# EAGLE library part AS6C2008 (library memory-alliance)
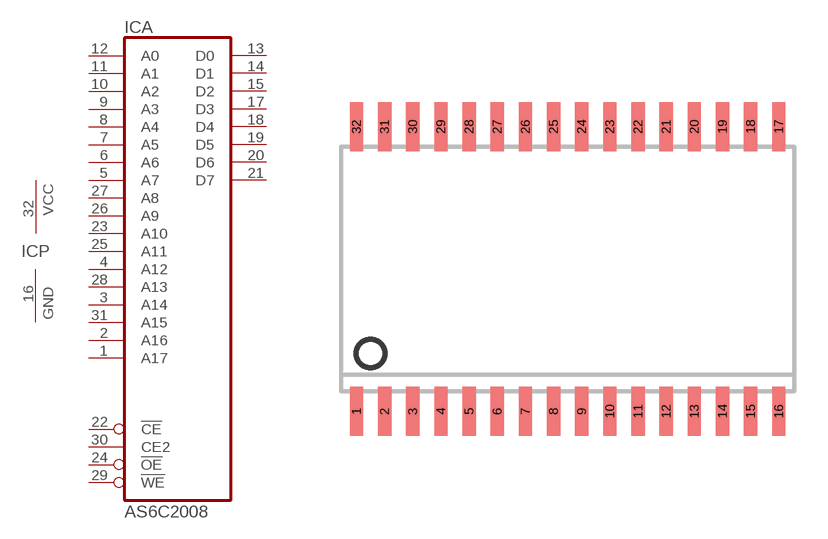
[diagram p2: symbol with the pads of SOP32L; footprint SOP32L]

Designator prefix IC; gates A=AS6C2008 P=PWRGND

## AS6C2008  [SOP32L]
1  A:A17  in
2  A:A16  in
3  A:A14  in
4  A:A12  in
5  A:A7  in
6  A:A6  in
7  A:A5  in
8  A:A4  in
9  A:A3  in
10  A:A2  in
11  A:A1  in
12  A:A0  in
13  A:D0
14  A:D1
15  A:D2
16  P:GND  pwr
17  A:D3
18  A:D4
19  A:D5
20  A:D6
21  A:D7
22  A:!CE  in
23  A:A10  in
24  A:!OE  in
25  A:A11  in
26  A:A9  in
27  A:A8  in
28  A:A13  in
29  A:!WE  in
30  A:CE2  in
31  A:A15  in
32  P:VCC  pwr

## Footprint SOP32L (pad centres in mm)
smd 0.6 x 2.2: 1 -9.525,-6.416; 2 -8.255,-6.416; 3 -6.985,-6.416; 4 -5.715,-6.416; 5 -4.445,-6.416; 6 -3.175,-6.416; 7 -1.905,-6.416; 8 -0.635,-6.416; 9 0.635,-6.416; 10 1.905,-6.416; 11 3.175,-6.416; 12 4.445,-6.416; 13 5.715,-6.416; 14 6.985,-6.416; 15 8.255,-6.416; 16 9.525,-6.416; 17 9.525,6.416; 18 8.255,6.416; 19 6.985,6.416; 20 5.715,6.416; 21 4.445,6.416; 22 3.175,6.416; 23 1.905,6.416; 24 0.635,6.416; 25 -0.635,6.416; 26 -1.905,6.416; 27 -3.175,6.416; 28 -4.445,6.416; 29 -5.715,6.416; 30 -6.985,6.416; 31 -8.255,6.416; 32 -9.525,6.416